# EAGLE library part CONNECTOR3X3_EDGE (library harrison)
3x3 edge connector
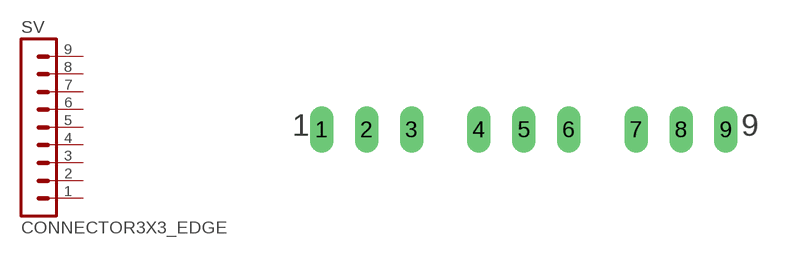
[diagram p11: symbol with the pads of CONNECTOR3X3_EDGE; footprint CONNECTOR3X3_EDGE]

Designator prefix SV

## CONNECTOR3X3_EDGE  [CONNECTOR3X3_EDGE]
1  1  pas
2  2  pas
3  3  pas
4  4  pas
5  5  pas
6  6  pas
7  7  pas
8  8  pas
9  9  pas

## Footprint CONNECTOR3X3_EDGE (pad centres in mm)
drill 0.813 long: 1 -11.43,0; 2 -8.89,0; 3 -6.35,0; 4 -2.54,0; 5 0,0; 6 2.54,0; 7 6.35,0; 8 8.89,0; 9 11.43,0